# Altium footprint library MOLEX_5023861071.PcbLib: 1 footprints
Each footprint in its own frame and in the unit in brackets; x right, y up, seen from the top. Pads: shape width x height; smd on the part's side, far side on the other; paste and mask are expansions set on the pad; w line width, h text height; cw(c..) or ccw(c..) is an arc to the next point about the centre after c.
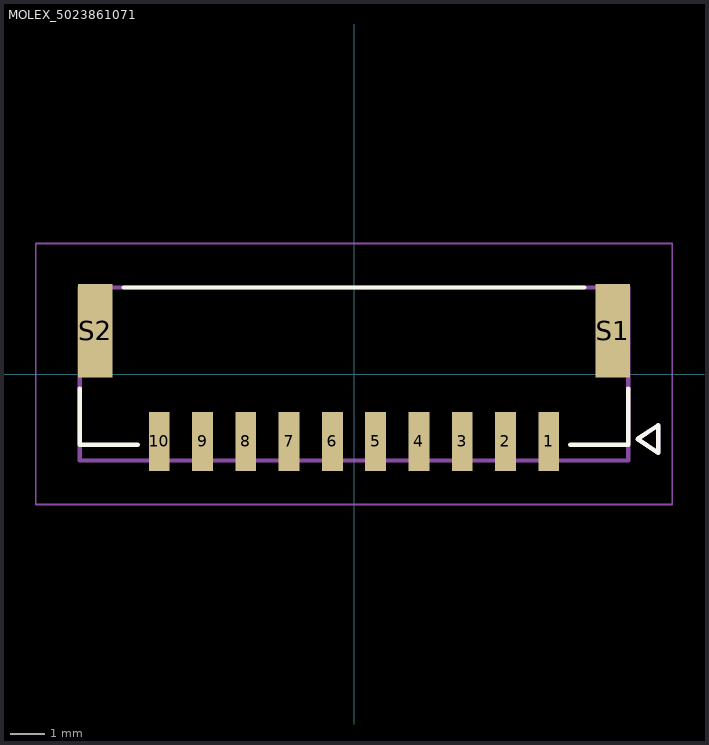
[diagram p0: the footprint, top view; thin cyan lines are the x and y axes]

## MOLEX_5023861071 [mm]
height 5.55
pads (12):
  rect 0.6x1.7 smd mask+0.076: 1(5.625,-1.95) 2(4.375,-1.95) 3(3.125,-1.95) 4(1.875,-1.95) 5(0.625,-1.95) 6(-0.625,-1.95) 7(-1.875,-1.95) 8(-3.125,-1.95) 9(-4.375,-1.95) 10(-5.625,-1.95)
  rect 1x2.7 smd mask+0.076: S1(7.475,1.25) S2(-7.475,1.25)
Top Overlay:
  lines w0.127: -7.925,-0.42 -7.925,-2.05 -6.245,-2.05 ; -6.655,2.5 6.655,2.5 ; 6.245,-2.05 7.925,-2.05 7.925,-0.42 ; 8.195,-1.88 8.795,-1.48 8.795,-2.28 8.195,-1.88
Mechanical 13:
  lines w0.127: -7.925,-2.5 -7.925,2.5 7.925,2.5 7.925,-2.5 -7.925,-2.5 ; 8.195,-1.88 8.795,-1.48 8.795,-2.28 8.195,-1.88
Mechanical 15:
  lines w0.05: -9.195,-3.77 -9.195,3.77 9.195,3.77 9.195,-3.77 -9.195,-3.77